# EAGLE library part CS2100-CP (library cirrus)
IC CLK MULT FRACTIONAL N
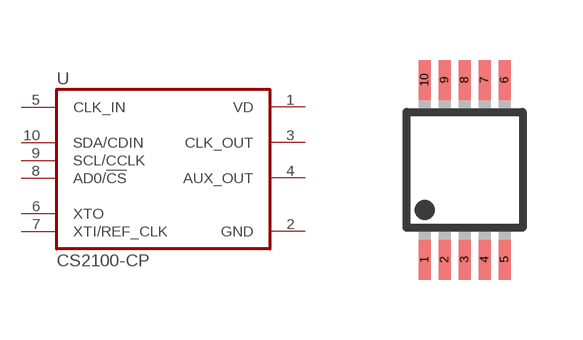
[diagram p19: symbol with the pads of MSOP10; footprint MSOP10]

Designator prefix U

## CS2100-CP  [MSOP10]
1  VD  pwr
2  GND  pwr
3  CLK_OUT  out
4  AUX_OUT  out
5  CLK_IN  in
6  XTO  out
7  XTI/REF_CLK  in
8  AD0/!CS!  in
9  SCL/CCLK  in
10  SDA/CDIN  in

## Footprint MSOP10 (pad centres in mm)
MSOP 10L body 3mm, pitch 0.5mm
smd 0.3 x 1: 1 -1,-2.25; 2 -0.5,-2.25; 3 0,-2.25; 4 0.5,-2.25; 5 1,-2.25; 6 1,2.25; 7 0.5,2.25; 8 0,2.25; 9 -0.5,2.25; 10 -1,2.25